# Altium schematic symbol library PIF_LCD2004.SchLib: 1 symbol
Pins are listed as number, name and electrical type; pins without a type are passive.

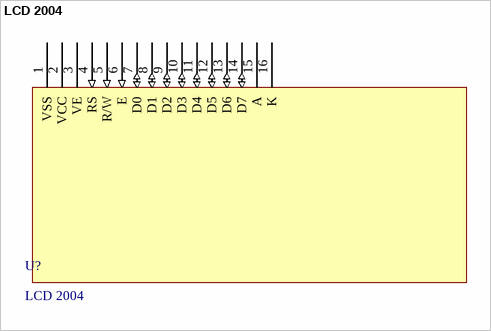
[diagram p0: symbol LCD 2004]

## LCD 2004
designator U?
footprint PCBComponent_1
pins: 1 VSS (power), 2 VCC (power), 3 VE (power), 4 RS (in), 5 R/W (in), 6 E (in), 7 D0 (io), 8 D1 (io), 9 D2 (io), 10 D3 (io), 11 D4 (io), 12 D5 (io), 13 D6 (io), 14 D7 (io), 15 A (power), 16 K (power)